# EAGLE library part PCM2906C (library custom)
IC Audio Codec USB
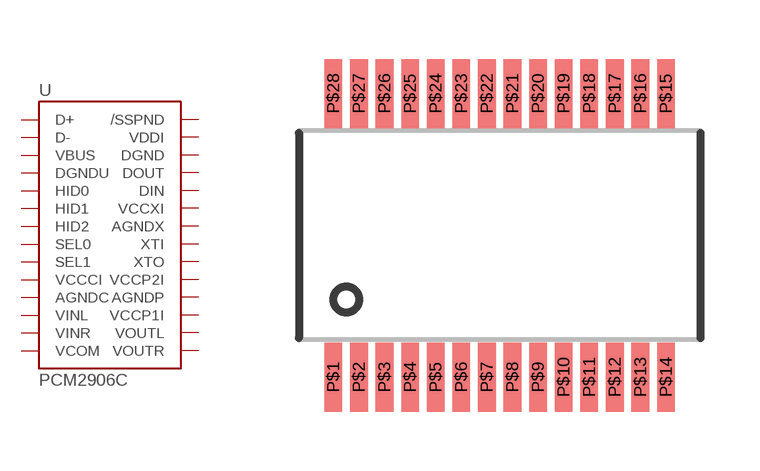
[diagram p81: symbol with the pads of 28-SSOP; footprint 28-SSOP]

Designator prefix U

## PCM2906C  [28-SSOP]
P$1  D+
P$2  D-
P$3  VBUS
P$4  DGNDU
P$5  HID0
P$6  HID1
P$7  HID2
P$8  SEL0
P$9  SEL1
P$10  VCCCI
P$11  AGNDC
P$12  VINL
P$13  VINR
P$14  VCOM
P$15  VOUTR
P$16  VOUTL
P$17  VCCP1I
P$18  AGNDP
P$19  VCCP2I
P$20  XTO
P$21  XTI
P$22  AGNDX
P$23  VCCXI
P$24  DIN
P$25  DOUT
P$26  DGND
P$27  VDDI
P$28  /SSPND

## Footprint 28-SSOP (pad centres in mm)
smd 0.45 x 1.75: P$1 -4.225,-3.6; P$2 -3.575,-3.6; P$3 -2.925,-3.6; P$4 -2.275,-3.6; P$5 -1.625,-3.6; P$6 -0.975,-3.6; P$7 -0.325,-3.6; P$8 0.325,-3.6; P$9 0.975,-3.6; P$10 1.625,-3.6; P$11 2.275,-3.6; P$12 2.925,-3.6; P$13 3.575,-3.6; P$14 4.225,-3.6; P$15 4.225,3.6; P$16 3.575,3.6; P$17 2.925,3.6; P$18 2.275,3.6; P$19 1.625,3.6; P$20 0.975,3.6; P$21 0.325,3.6; P$22 -0.325,3.6; P$23 -0.975,3.6; P$24 -1.625,3.6; P$25 -2.275,3.6; P$26 -2.925,3.6; P$27 -3.575,3.6; P$28 -4.225,3.6